# Altium schematic symbol library 59453-052110ECHLF.SchLib: 1 symbol
Pins are listed as number, name and electrical type; pins without a type are passive.

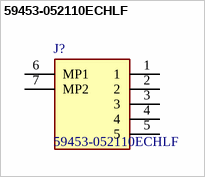
[diagram p0: symbol 59453-052110ECHLF]

## 59453-052110ECHLF
designator J?
0.50mm Flex Connectors, FPC/FFC Side Entry ZIF Connector, Surface Mount, 5 Positions, Top Contact, 0.50mm (0.020in) Pitch.; Manufacturer_Name: Amphenol Communications Solutions; Geometry.Height: 1mm; Manufacturer_Part_Number: 59453-052110ECHLF; Arrow Part Number: *; Arrow Price/Stock: *; Datasheet Link: https://cdn.amphenol-cs.com/media/wysiwyg/files/drawing/59453-0_2110echlf.pdf
footprint 59453052110ECHLF
pins: 1, 2, 3, 4, 5, 6 MP1, 7 MP2